# Altium integrated library Molex FFC - FPC Connectors (SMT).IntLib: 638 symbols (part 6 of 20)
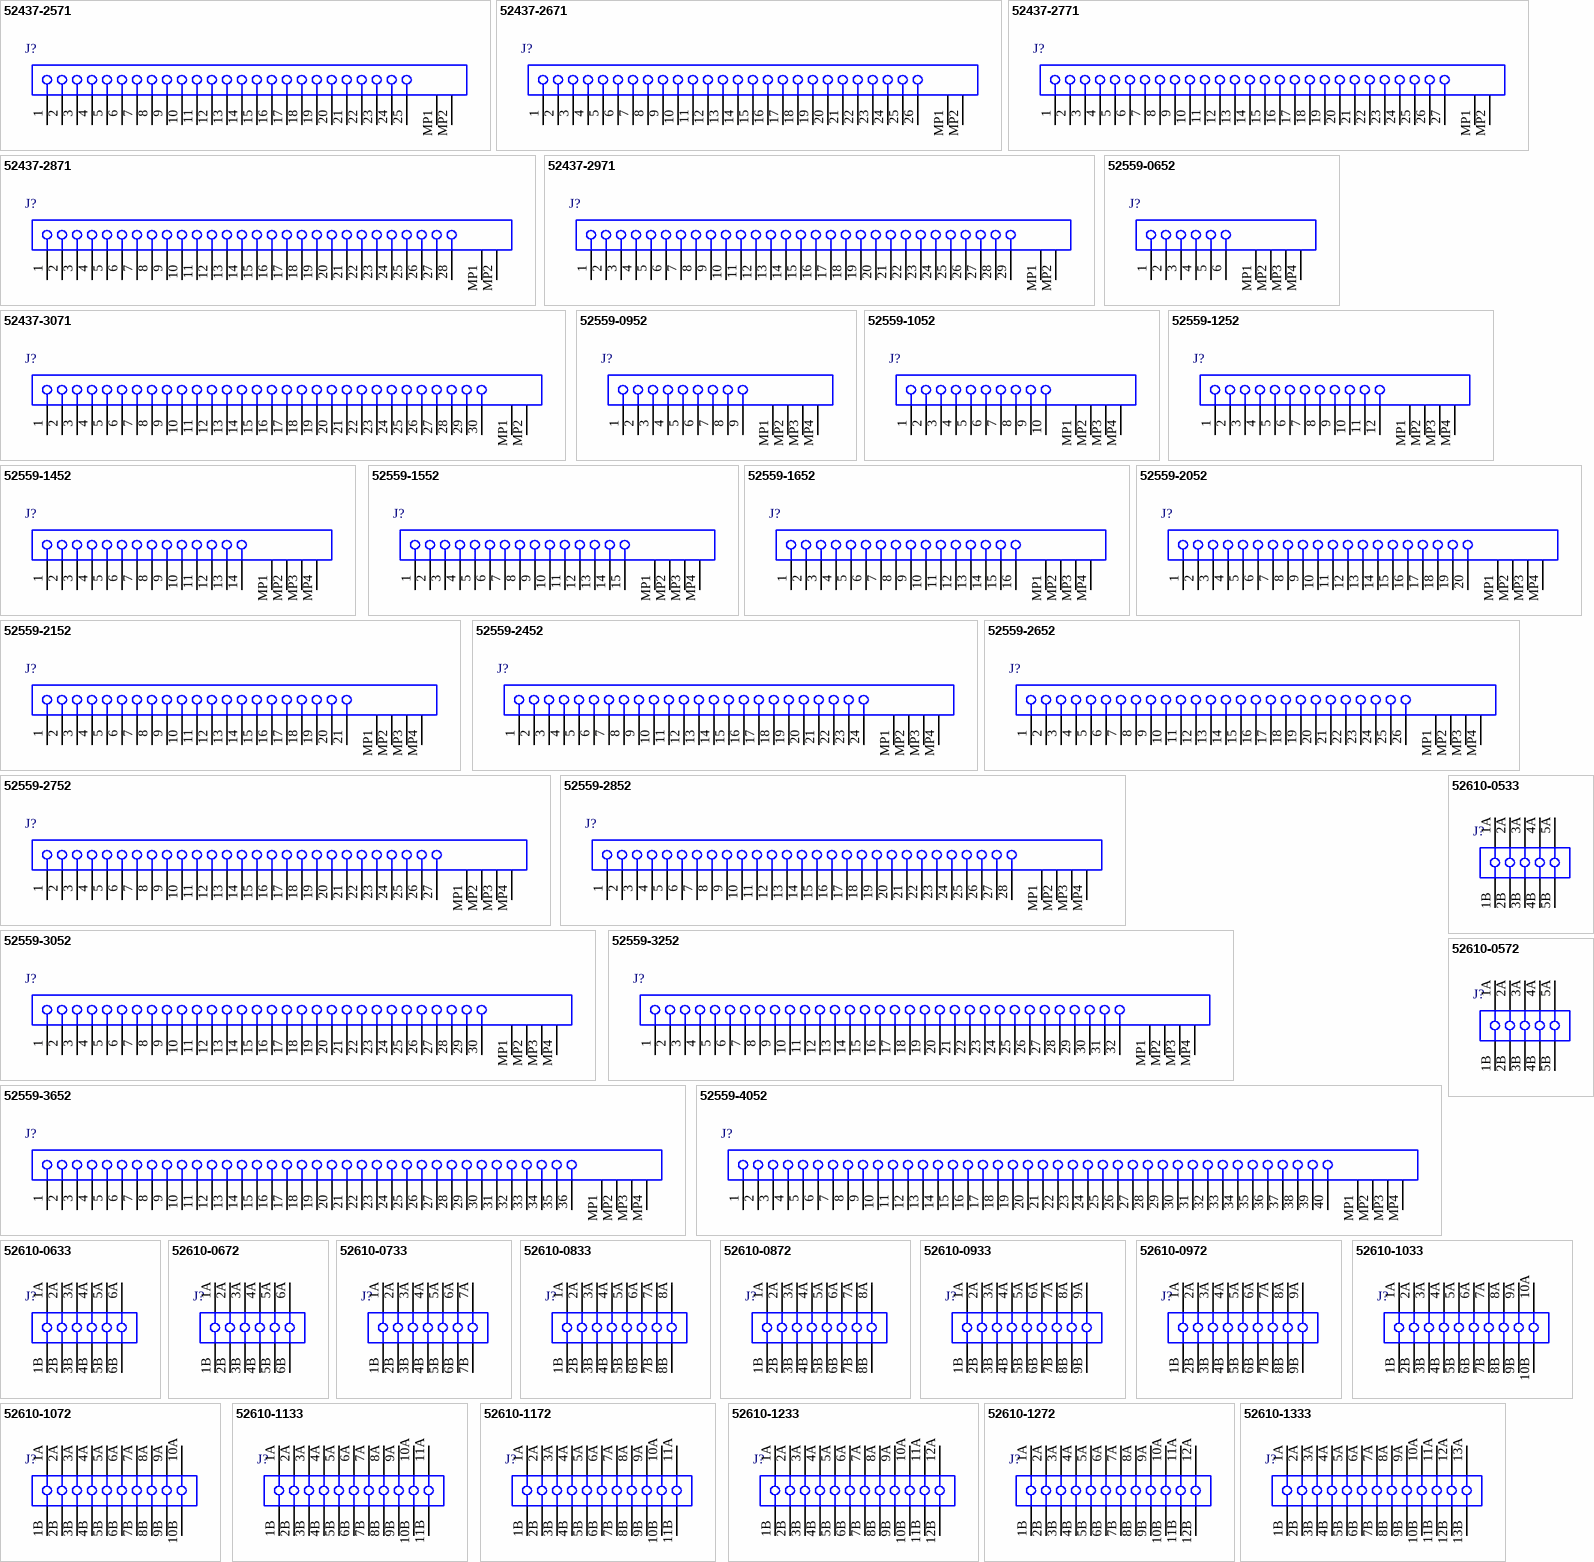
[diagram p26: symbols 52437-2571 to 52610-1333]

## 52610-0572
designator J?
1.0 mm Pitch Easy-On(TM) Type FPC Connector, 5.75 mm Mated Height, Vertical, ZIF, SMT, 5 Circuits, -40 to 85 degC, ELV and RoHS Compliant, Tape and Reel; Manufacturer: Molex; PartNumber: 52610-0572; Circuits (Loaded): 5; Current (Max per Contact): 1A; Durability (mating cycles max): 30; Mated Height: 5.75mm; Material - Metal: Phosphor Bronze; Material - Plating Mating: Gold; Material - Plating Termination: Tin; PCB Locator: No; PCB Retention: None; Pitch - Mating Interface: 1.00mm; Voltage (Max): 125V AC (RMS)/DC; PackageVersion: Rev. G, 02/2012; PackageReference: 52610-0572; PackageDescription: 5-Lead FPC Connector, Pitch 1.0 mm; Contact Position: N/A; Entry Angle: Vertical; Number of Rows: 1; Orientation: Vertical; Packing: Tape and Reel; Polarized to PCB: No; RoHS: TRUE; Stackable: No; Mounting Technology: Surface Mount; ComponentLink1Description: Manufacturer URL; ComponentLink1URL: http://www.molex.com/molex/index.jsp; ComponentLink2Description: Datasheet; ComponentLink2URL: http://www.molex.com/webdocs/datasheets/pdf/en-us/0526100572_FFC_FPC_CONNECTORS.pdf; ComponentLink3Description: Package Specification; ComponentLink3URL: http://www.molex.com/pdm_docs/sd/526100572_sd.pdf
footprint MOLX-52610-0572 (FPC Connector, 5-Leads, Vertical, Pitch 1.0 mm, Mated Height 5.75 mm, SMT)
pins: 1A, 1B, 2A, 2B, 3A, 3B, 4A, 4B, 5A, 5B

## 52610-0633
designator J?
1.0 mm Pitch Easy-On(TM) Type FPC Connector, 5.75 mm Mated Height, Vertical, ZIF, SMT, 6 Circuits, -40 to 85 degC, ELV and RoHS Compliant, Tape and Reel; Manufacturer: Molex; PartNumber: 52610-0633; Circuits (Loaded): 6; Current (Max per Contact): 1A; Durability (mating cycles max): 30; Mated Height: 5.75mm; Material - Metal: Phosphor Bronze; Material - Plating Mating: Silver, Tin-Bismuth; PCB Locator: No; PCB Retention: None; Pitch - Mating Interface: 1.00mm; Voltage (Max): 125V; PackageVersion: Rev. B, 08/2013; PackageReference: 52610-0633; PackageDescription: 6-Lead FPC Connector, Pitch 1.0 mm; Contact Position: N/A; Entry Angle: Vertical; Material - Plating Termination: Silver, Tin-Bismuth; Number of Rows: 1; Orientation: Vertical; Packing: Tape and Reel; Pitch - Termination Interface: 1.00mm; Polarized to PCB: No; RoHS: TRUE; Stackable: No; Mounting Technology: Surface Mount; ComponentLink1Description: Manufacturer URL; ComponentLink1URL: http://www.molex.com/molex/index.jsp; ComponentLink2Description: Datasheet; ComponentLink2URL: http://www.molex.com/webdocs/datasheets/pdf/en-us/0526100633_FFC_FPC_CONNECTORS.pdf; ComponentLink3Description: Package Specification; ComponentLink3URL: http://www.molex.com/pdm_docs/sd/526100633_sd.pdf
footprint MOLX-52610-0633 (FPC Connector, 6-Leads, Vertical, Pitch 1.0 mm, Mated Height 5.75 mm, SMT)
pins: 1A, 1B, 2A, 2B, 3A, 3B, 4A, 4B, 5A, 5B, 6A, 6B

## 52610-0672
designator J?
1.0 mm Pitch Easy-On(TM) Type FPC Connector, 5.75 mm Mated Height, Vertical, ZIF, SMT, 6 Circuits, -40 to 85 degC, ELV and RoHS Compliant, Tape and Reel; Manufacturer: Molex; PartNumber: 52610-0672; Circuits (Loaded): 6; Current (Max per Contact): 1A; Durability (mating cycles max): 30; Mated Height: 5.75mm; Material - Metal: Phosphor Bronze; Material - Plating Mating: Gold; Material - Plating Termination: Tin; PCB Locator: No; PCB Retention: None; Pitch - Mating Interface: 1.00mm; Voltage (Max): 125V AC (RMS)/DC; PackageVersion: Rev. G, 02/2012; PackageReference: 52610-0672; PackageDescription: 6-Lead FPC Connector, Pitch 1.0 mm; Contact Position: N/A; Entry Angle: Vertical; Number of Rows: 1; Orientation: Vertical; Packing: Tape and Reel; Polarized to PCB: No; RoHS: TRUE; Stackable: No; Mounting Technology: Surface Mount; ComponentLink1Description: Manufacturer URL; ComponentLink1URL: http://www.molex.com/molex/index.jsp; ComponentLink2Description: Datasheet; ComponentLink2URL: http://www.molex.com/webdocs/datasheets/pdf/en-us/0526100672_FFC_FPC_CONNECTORS.pdf; ComponentLink3Description: Package Specification; ComponentLink3URL: http://www.molex.com/pdm_docs/sd/526100672_sd.pdf
footprint MOLX-52610-0672 (FPC Connector, 6-Leads, Vertical, Pitch 1.0 mm, Mated Height 5.75 mm, SMT)
pins: 1A, 1B, 2A, 2B, 3A, 3B, 4A, 4B, 5A, 5B, 6A, 6B

## 52610-0733
designator J?
1.0 mm Pitch Easy-On(TM) Type FPC Connector, 5.75 mm Mated Height, Vertical, ZIF, SMT, 7 Circuits, -40 to 85 degC, ELV and RoHS Compliant, Tape and Reel; Manufacturer: Molex; PartNumber: 52610-0733; Circuits (Loaded): 7; Current (Max per Contact): 1A; Durability (mating cycles max): 30; Mated Height: 5.75mm; Material - Metal: Phosphor Bronze; Material - Plating Mating: Silver, Tin-Bismuth; PCB Locator: No; PCB Retention: None; Pitch - Mating Interface: 1.00mm; Voltage (Max): 125V; PackageVersion: Rev. B, 08/2013; PackageReference: 52610-0733; PackageDescription: 7-Lead FPC Connector, Pitch 1.0 mm; Contact Position: N/A; Entry Angle: Vertical; Material - Plating Termination: Silver, Tin-Bismuth; Number of Rows: 1; Orientation: Vertical; Packing: Tape and Reel; Pitch - Termination Interface: 1.00mm; Polarized to PCB: No; RoHS: TRUE; Stackable: No; Mounting Technology: Surface Mount; ComponentLink1Description: Manufacturer URL; ComponentLink1URL: http://www.molex.com/molex/index.jsp; ComponentLink2Description: Datasheet; ComponentLink2URL: http://www.molex.com/webdocs/datasheets/pdf/en-us/0526100733_FFC_FPC_CONNECTORS.pdf; ComponentLink3Description: Package Specification; ComponentLink3URL: http://www.molex.com/pdm_docs/sd/526100733_sd.pdf
footprint MOLX-52610-0733 (FPC Connector, 7-Leads, Vertical, Pitch 1.0 mm, Mated Height 5.75 mm, SMT)
pins: 1A, 1B, 2A, 2B, 3A, 3B, 4A, 4B, 5A, 5B, 6A, 6B, 7A, 7B

## 52610-0833
designator J?
1.0 mm Pitch Easy-On(TM) Type FPC Connector, 5.75 mm Mated Height, Vertical, ZIF, SMT, 8 Circuits, -40 to 85 degC, ELV and RoHS Compliant, Tape and Reel; Manufacturer: Molex; PartNumber: 52610-0833; Circuits (Loaded): 8; Current (Max per Contact): 1A; Durability (mating cycles max): 30; Mated Height: 5.75mm; Material - Metal: Phosphor Bronze; Material - Plating Mating: Silver, Tin-Bismuth; PCB Locator: No; PCB Retention: None; Pitch - Mating Interface: 1.00mm; Voltage (Max): 125V; PackageVersion: Rev. B, 08/2013; PackageReference: 52610-0833; PackageDescription: 8-Lead FPC Connector, Pitch 1.0 mm; Contact Position: N/A; Entry Angle: Vertical; Material - Plating Termination: Silver, Tin-Bismuth; Number of Rows: 1; Orientation: Vertical; Packing: Tape and Reel; Pitch - Termination Interface: 1.00mm; Polarized to PCB: No; RoHS: TRUE; Stackable: No; Mounting Technology: Surface Mount; ComponentLink1Description: Manufacturer URL; ComponentLink1URL: http://www.molex.com/molex/index.jsp; ComponentLink2Description: Datasheet; ComponentLink2URL: http://www.molex.com/webdocs/datasheets/pdf/en-us/0526100833_FFC_FPC_CONNECTORS.pdf; ComponentLink3Description: Package Specification; ComponentLink3URL: http://www.molex.com/pdm_docs/sd/526100833_sd.pdf
footprint MOLX-52610-0833 (FPC Connector, 8-Leads, Vertical, Pitch 1.0 mm, Mated Height 5.75 mm, SMT)
pins: 1A, 1B, 2A, 2B, 3A, 3B, 4A, 4B, 5A, 5B, 6A, 6B, 7A, 7B, 8A, 8B

## 52610-0872
designator J?
1.0 mm Pitch Easy-On(TM) Type FPC Connector, 5.75 mm Mated Height, Vertical, ZIF, SMT, 8 Circuits, -40 to 85 degC, ELV and RoHS Compliant, Tape and Reel; Manufacturer: Molex; PartNumber: 52610-0872; Circuits (Loaded): 8; Current (Max per Contact): 1A; Durability (mating cycles max): 30; Mated Height: 5.75mm; Material - Metal: Phosphor Bronze; Material - Plating Mating: Gold; Material - Plating Termination: Tin; PCB Locator: No; PCB Retention: None; Pitch - Mating Interface: 1.00mm; Voltage (Max): 125V AC (RMS)/DC; PackageVersion: Rev. G, 02/2012; PackageReference: 52610-0872; PackageDescription: 8-Lead FPC Connector, Pitch 1.0 mm; Contact Position: N/A; Entry Angle: Vertical; Number of Rows: 1; Orientation: Vertical; Packing: Tape and Reel; Polarized to PCB: No; RoHS: TRUE; Stackable: No; Mounting Technology: Surface Mount; ComponentLink1Description: Manufacturer URL; ComponentLink1URL: http://www.molex.com/molex/index.jsp; ComponentLink2Description: Datasheet; ComponentLink2URL: http://www.molex.com/webdocs/datasheets/pdf/en-us/0526100872_FFC_FPC_CONNECTORS.pdf; ComponentLink3Description: Package Specification; ComponentLink3URL: http://www.molex.com/pdm_docs/sd/526100872_sd.pdf
footprint MOLX-52610-0872 (FPC Connector, 8-Leads, Vertical, Pitch 1.0 mm, Mated Height 5.75 mm, SMT)
pins: 1A, 1B, 2A, 2B, 3A, 3B, 4A, 4B, 5A, 5B, 6A, 6B, 7A, 7B, 8A, 8B

## 52610-0933
designator J?
1.0 mm Pitch Easy-On(TM) Type FPC Connector, 5.75 mm Mated Height, Vertical, ZIF, SMT, 9 Circuits, -40 to 85 degC, ELV and RoHS Compliant, Tape and Reel; Manufacturer: Molex; PartNumber: 52610-0933; Circuits (Loaded): 9; Current (Max per Contact): 1A; Durability (mating cycles max): 30; Mated Height: 5.75mm; Material - Metal: Phosphor Bronze; Material - Plating Mating: Silver, Tin-Bismuth; PCB Locator: No; PCB Retention: None; Pitch - Mating Interface: 1.00mm; Voltage (Max): 125V; PackageVersion: Rev. B, 08/2013; PackageReference: 52610-0933; PackageDescription: 9-Lead FPC Connector, Pitch 1.0 mm; Contact Position: N/A; Entry Angle: Vertical; Material - Plating Termination: Silver, Tin-Bismuth; Number of Rows: 1; Orientation: Vertical; Packing: Tape and Reel; Pitch - Termination Interface: 1.00mm; Polarized to PCB: No; RoHS: TRUE; Stackable: No; Mounting Technology: Surface Mount; ComponentLink1Description: Manufacturer URL; ComponentLink1URL: http://www.molex.com/molex/index.jsp; ComponentLink2Description: Datasheet; ComponentLink2URL: http://www.molex.com/webdocs/datasheets/pdf/en-us/0526100933_FFC_FPC_CONNECTORS.pdf; ComponentLink3Description: Package Specification; ComponentLink3URL: http://www.molex.com/pdm_docs/sd/526100933_sd.pdf
footprint MOLX-52610-0933 (FPC Connector, 9-Leads, Vertical, Pitch 1.0 mm, Mated Height 5.75 mm, SMT)
pins: 1A, 1B, 2A, 2B, 3A, 3B, 4A, 4B, 5A, 5B, 6A, 6B, 7A, 7B, 8A, 8B, 9A, 9B

## 52610-0972
designator J?
1.0 mm Pitch Easy-On(TM) Type FPC Connector, 5.75 mm Mated Height, Vertical, ZIF, SMT, 9 Circuits, -40 to 85 degC, ELV and RoHS Compliant, Tape and Reel; Manufacturer: Molex; PartNumber: 52610-0972; Circuits (Loaded): 9; Current (Max per Contact): 1A; Durability (mating cycles max): 30; Mated Height: 5.75mm; Material - Metal: Phosphor Bronze; Material - Plating Mating: Gold; Material - Plating Termination: Tin; PCB Locator: No; PCB Retention: None; Pitch - Mating Interface: 1.00mm; Voltage (Max): 125V AC (RMS)/DC; PackageVersion: Rev. G, 02/2012; PackageReference: 52610-0972; PackageDescription: 9-Lead FPC Connector, Pitch 1.0 mm; Contact Position: N/A; Entry Angle: Vertical; Number of Rows: 1; Orientation: Vertical; Packing: Tape and Reel; Polarized to PCB: No; RoHS: TRUE; Stackable: No; Mounting Technology: Surface Mount; ComponentLink1Description: Manufacturer URL; ComponentLink1URL: http://www.molex.com/molex/index.jsp; ComponentLink2Description: Datasheet; ComponentLink2URL: http://www.molex.com/webdocs/datasheets/pdf/en-us/0526100972_FFC_FPC_CONNECTORS.pdf; ComponentLink3Description: Package Specification; ComponentLink3URL: http://www.molex.com/pdm_docs/sd/526100972_sd.pdf
footprint MOLX-52610-0972 (FPC Connector, 9-Leads, Vertical, Pitch 1.0 mm, Mated Height 5.75 mm, SMT)
pins: 1A, 1B, 2A, 2B, 3A, 3B, 4A, 4B, 5A, 5B, 6A, 6B, 7A, 7B, 8A, 8B, 9A, 9B

## 52610-1033
designator J?
1.0 mm Pitch Easy-On(TM) Type FPC Connector, 5.75 mm Mated Height, Vertical, ZIF, SMT, 10 Circuits, -40 to 85 degC, ELV and RoHS Compliant, Tape and Reel; Manufacturer: Molex; PartNumber: 52610-1033; Circuits (Loaded): 10; Current (Max per Contact): 1A; Durability (mating cycles max): 30; Mated Height: 5.75mm; Material - Metal: Phosphor Bronze; Material - Plating Mating: Silver, Tin-Bismuth; PCB Locator: No; PCB Retention: None; Pitch - Mating Interface: 1.00mm; Voltage (Max): 125V; PackageVersion: Rev. B, 08/2013; PackageReference: 52610-1033; PackageDescription: 10-Lead FPC Connector, Pitch 1.0 mm; Contact Position: N/A; Entry Angle: Vertical; Material - Plating Termination: Silver, Tin-Bismuth; Number of Rows: 1; Orientation: Vertical; Packing: Tape and Reel; Pitch - Termination Interface: 1.00mm; Polarized to PCB: No; RoHS: TRUE; Stackable: No; Mounting Technology: Surface Mount; ComponentLink1Description: Manufacturer URL; ComponentLink1URL: http://www.molex.com/molex/index.jsp; ComponentLink2Description: Datasheet; ComponentLink2URL: http://www.molex.com/webdocs/datasheets/pdf/en-us/0526101033_FFC_FPC_CONNECTORS.pdf; ComponentLink3Description: Package Specification; ComponentLink3URL: http://www.molex.com/pdm_docs/sd/526101033_sd.pdf
footprint MOLX-52610-1033 (FPC Connector, 10-Leads, Vertical, Pitch 1.0 mm, Mated Height 5.75 mm, SMT)
pins: 1A, 1B, 2A, 2B, 3A, 3B, 4A, 4B, 5A, 5B, 6A, 6B, 7A, 7B, 8A, 8B, 9A, 9B, 10A, 10B

## 52610-1072
designator J?
1.0 mm Pitch Easy-On(TM) Type FPC Connector, 5.75 mm Mated Height, Vertical, ZIF, SMT, 10 Circuits, -40 to 85 degC, ELV and RoHS Compliant, Tape and Reel; Manufacturer: Molex; PartNumber: 52610-1072; Circuits (Loaded): 10; Current (Max per Contact): 1A; Durability (mating cycles max): 30; Mated Height: 5.75mm; Material - Metal: Phosphor Bronze; Material - Plating Mating: Gold; PCB Locator: No; PCB Retention: None; Pitch - Mating Interface: 1.00mm; Voltage (Max): 125V AC (RMS)/DC; PackageVersion: Rev. G, 02/2012; PackageReference: 52610-1072; PackageDescription: 10-Lead FPC Connector, Pitch 1.0 mm; Contact Position: N/A; Entry Angle: Vertical; Material - Plating Termination: Gold; Number of Rows: 1; Orientation: Vertical; Packing: Tape and Reel; Polarized to PCB: No; RoHS: TRUE; Stackable: No; Mounting Technology: Surface Mount; ComponentLink1Description: Manufacturer URL; ComponentLink1URL: http://www.molex.com/molex/index.jsp; ComponentLink2Description: Datasheet; ComponentLink2URL: http://www.molex.com/webdocs/datasheets/pdf/en-us/0526101072_FFC_FPC_CONNECTORS.pdf; ComponentLink3Description: Package Specification; ComponentLink3URL: http://www.molex.com/pdm_docs/sd/526101072_sd.pdf
footprint MOLX-52610-1072 (FPC Connector, 10-Leads, Vertical, Pitch 1.0 mm, Mated Height 5.75 mm, SMT)
pins: 1A, 1B, 2A, 2B, 3A, 3B, 4A, 4B, 5A, 5B, 6A, 6B, 7A, 7B, 8A, 8B, 9A, 9B, 10A, 10B

## 52610-1133
designator J?
1.0 mm Pitch Easy-On(TM) Type FPC Connector, 5.75 mm Mated Height, Vertical, ZIF, SMT, 11 Circuits, -40 to 85 degC, ELV and RoHS Compliant, Tape and Reel; Manufacturer: Molex; PartNumber: 52610-1133; Circuits (Loaded): 11; Current (Max per Contact): 1A; Durability (mating cycles max): 30; Mated Height: 5.75mm; Material - Metal: Phosphor Bronze; Material - Plating Mating: Silver, Tin-Bismuth; PCB Locator: No; PCB Retention: None; Pitch - Mating Interface: 1.00mm; Voltage (Max): 125V; PackageVersion: Rev. B, 08/2013; PackageReference: 52610-1133; PackageDescription: 11-Lead FPC Connector, Pitch 1.0 mm; Contact Position: N/A; Entry Angle: Vertical; Material - Plating Termination: Silver, Tin-Bismuth; Number of Rows: 1; Orientation: Vertical; Packing: Tape and Reel; Pitch - Termination Interface: 1.00mm; Polarized to PCB: No; RoHS: TRUE; Stackable: No; Mounting Technology: Surface Mount; ComponentLink1Description: Manufacturer URL; ComponentLink1URL: http://www.molex.com/molex/index.jsp; ComponentLink2Description: Datasheet; ComponentLink2URL: http://www.molex.com/webdocs/datasheets/pdf/en-us/0526101133_FFC_FPC_CONNECTORS.pdf; ComponentLink3Description: Package Specification; ComponentLink3URL: http://www.molex.com/pdm_docs/sd/526101133_sd.pdf
footprint MOLX-52610-1133 (FPC Connector, 11-Leads, Vertical, Pitch 1.0 mm, Mated Height 5.75 mm, SMT)
pins: 1A, 1B, 2A, 2B, 3A, 3B, 4A, 4B, 5A, 5B, 6A, 6B, 7A, 7B, 8A, 8B, 9A, 9B, 10A, 10B, 11A, 11B

## 52610-1172
designator J?
1.0 mm Pitch Easy-On(TM) Type FPC Connector, 5.75 mm Mated Height, Vertical, ZIF, SMT, 11 Circuits, -40 to 85 degC, ELV and RoHS Compliant, Tape and Reel; Manufacturer: Molex; PartNumber: 52610-1172; Circuits (Loaded): 11; Current (Max per Contact): 1A; Durability (mating cycles max): 30; Mated Height: 5.75mm; Material - Metal: Phosphor Bronze; Material - Plating Mating: Gold; Material - Plating Termination: Tin; PCB Locator: No; PCB Retention: None; Pitch - Mating Interface: 1.00mm; Voltage (Max): 125V AC (RMS)/DC; PackageVersion: Rev. G, 02/2012; PackageReference: 52610-1172; PackageDescription: 11-Lead FPC Connector, Pitch 1.0 mm; Contact Position: N/A; Entry Angle: Vertical; Number of Rows: 1; Orientation: Vertical; Packing: Tape and Reel; Polarized to PCB: No; RoHS: TRUE; Stackable: No; Mounting Technology: Surface Mount; ComponentLink1Description: Manufacturer URL; ComponentLink1URL: http://www.molex.com/molex/index.jsp; ComponentLink2Description: Datasheet; ComponentLink2URL: http://www.molex.com/webdocs/datasheets/pdf/en-us/0526101172_FFC_FPC_CONNECTORS.pdf; ComponentLink3Description: Package Specification; ComponentLink3URL: http://www.molex.com/pdm_docs/sd/526101172_sd.pdf
footprint MOLX-52610-1172 (FPC Connector, 11-Leads, Vertical, Pitch 1.0 mm, Mated Height 5.75 mm, SMT)
pins: 1A, 1B, 2A, 2B, 3A, 3B, 4A, 4B, 5A, 5B, 6A, 6B, 7A, 7B, 8A, 8B, 9A, 9B, 10A, 10B, 11A, 11B

## 52610-1233
designator J?
1.0 mm Pitch Easy-On(TM) Type FPC Connector, 5.75 mm Mated Height, Vertical, ZIF, SMT, 12 Circuits, -40 to 85 degC, ELV and RoHS Compliant, Tape and Reel; Manufacturer: Molex; PartNumber: 52610-1233; Circuits (Loaded): 12; Current (Max per Contact): 1A; Durability (mating cycles max): 30; Mated Height: 5.75mm; Material - Metal: Phosphor Bronze; Material - Plating Mating: Silver, Tin-Bismuth; PCB Locator: No; PCB Retention: None; Pitch - Mating Interface: 1.00mm; Voltage (Max): 125V; PackageVersion: Rev. B, 08/2013; PackageReference: 52610-1233; PackageDescription: 12-Lead FPC Connector, Pitch 1.0 mm; Contact Position: N/A; Entry Angle: Vertical; Material - Plating Termination: Silver, Tin-Bismuth; Number of Rows: 1; Orientation: Vertical; Packing: Tape and Reel; Pitch - Termination Interface: 1.00mm; Polarized to PCB: No; RoHS: TRUE; Stackable: No; Mounting Technology: Surface Mount; ComponentLink1Description: Manufacturer URL; ComponentLink1URL: http://www.molex.com/molex/index.jsp; ComponentLink2Description: Datasheet; ComponentLink2URL: http://www.molex.com/webdocs/datasheets/pdf/en-us/0526101233_FFC_FPC_CONNECTORS.pdf; ComponentLink3Description: Package Specification; ComponentLink3URL: http://www.molex.com/pdm_docs/sd/526101233_sd.pdf
footprint MOLX-52610-1233 (FPC Connector, 12-Leads, Vertical, Pitch 1.0 mm, Mated Height 5.75 mm, SMT)
pins: 1A, 1B, 2A, 2B, 3A, 3B, 4A, 4B, 5A, 5B, 6A, 6B, 7A, 7B, 8A, 8B, 9A, 9B, 10A, 10B, 11A, 11B, 12A, 12B

## 52610-1272
designator J?
1.0 mm Pitch Easy-On(TM) Type FPC Connector, 5.75 mm Mated Height, Vertical, ZIF, SMT, 12 Circuits, -40 to 85 degC, ELV and RoHS Compliant, Tape and Reel; Manufacturer: Molex; PartNumber: 52610-1272; Circuits (Loaded): 12; Current (Max per Contact): 1A; Durability (mating cycles max): 30; Mated Height: 5.75mm; Material - Metal: Phosphor Bronze; Material - Plating Mating: Gold; Material - Plating Termination: Tin; PCB Locator: No; PCB Retention: None; Pitch - Mating Interface: 1.00mm; Voltage (Max): 125V AC (RMS)/DC; PackageVersion: Rev. G, 02/2012; PackageReference: 52610-1272; PackageDescription: 12-Lead FPC Connector, Pitch 1.0 mm; Contact Position: N/A; Entry Angle: Vertical; Number of Rows: 1; Orientation: Vertical; Packing: Tape and Reel; Polarized to PCB: No; RoHS: TRUE; Stackable: No; Mounting Technology: Surface Mount; ComponentLink1Description: Manufacturer URL; ComponentLink1URL: http://www.molex.com/molex/index.jsp; ComponentLink2Description: Datasheet; ComponentLink2URL: http://www.molex.com/webdocs/datasheets/pdf/en-us/0526101272_FFC_FPC_CONNECTORS.pdf; ComponentLink3Description: Package Specification; ComponentLink3URL: http://www.molex.com/pdm_docs/sd/526101272_sd.pdf
footprint MOLX-52610-1272 (FPC Connector, 12-Leads, Vertical, Pitch 1.0 mm, Mated Height 5.75 mm, SMT)
pins: 1A, 1B, 2A, 2B, 3A, 3B, 4A, 4B, 5A, 5B, 6A, 6B, 7A, 7B, 8A, 8B, 9A, 9B, 10A, 10B, 11A, 11B, 12A, 12B

## 52610-1333
designator J?
1.0 mm Pitch Easy-On(TM) Type FPC Connector, 5.75 mm Mated Height, Vertical, ZIF, SMT, 13 Circuits, -40 to 85 degC, ELV and RoHS Compliant, Tape and Reel; Manufacturer: Molex; PartNumber: 52610-1333; Circuits (Loaded): 13; Current (Max per Contact): 1A; Durability (mating cycles max): 30; Mated Height: 5.75mm; Material - Metal: Phosphor Bronze; Material - Plating Mating: Silver, Tin-Bismuth; PCB Locator: No; PCB Retention: None; Pitch - Mating Interface: 1.00mm; Voltage (Max): 125V; PackageVersion: Rev. B, 08/2013; PackageReference: 52610-1333; PackageDescription: 13-Lead FPC Connector, Pitch 1.0 mm; Contact Position: N/A; Entry Angle: Vertical; Material - Plating Termination: Silver, Tin-Bismuth; Number of Rows: 1; Orientation: Vertical; Packing: Tape and Reel; Pitch - Termination Interface: 1.00mm; Polarized to PCB: No; RoHS: TRUE; Stackable: No; Mounting Technology: Surface Mount; ComponentLink1Description: Manufacturer URL; ComponentLink1URL: http://www.molex.com/molex/index.jsp; ComponentLink2Description: Datasheet; ComponentLink2URL: http://www.molex.com/webdocs/datasheets/pdf/en-us/0526101333_FFC_FPC_CONNECTORS.pdf; ComponentLink3Description: Package Specification; ComponentLink3URL: http://www.molex.com/pdm_docs/sd/526101333_sd.pdf
footprint MOLX-52610-1333 (FPC Connector, 13-Leads, Vertical, Pitch 1.0 mm, Mated Height 5.75 mm, SMT)
pins: 1A, 1B, 2A, 2B, 3A, 3B, 4A, 4B, 5A, 5B, 6A, 6B, 7A, 7B, 8A, 8B, 9A, 9B, 10A, 10B, 11A, 11B, 12A, 12B, 13A, 13B

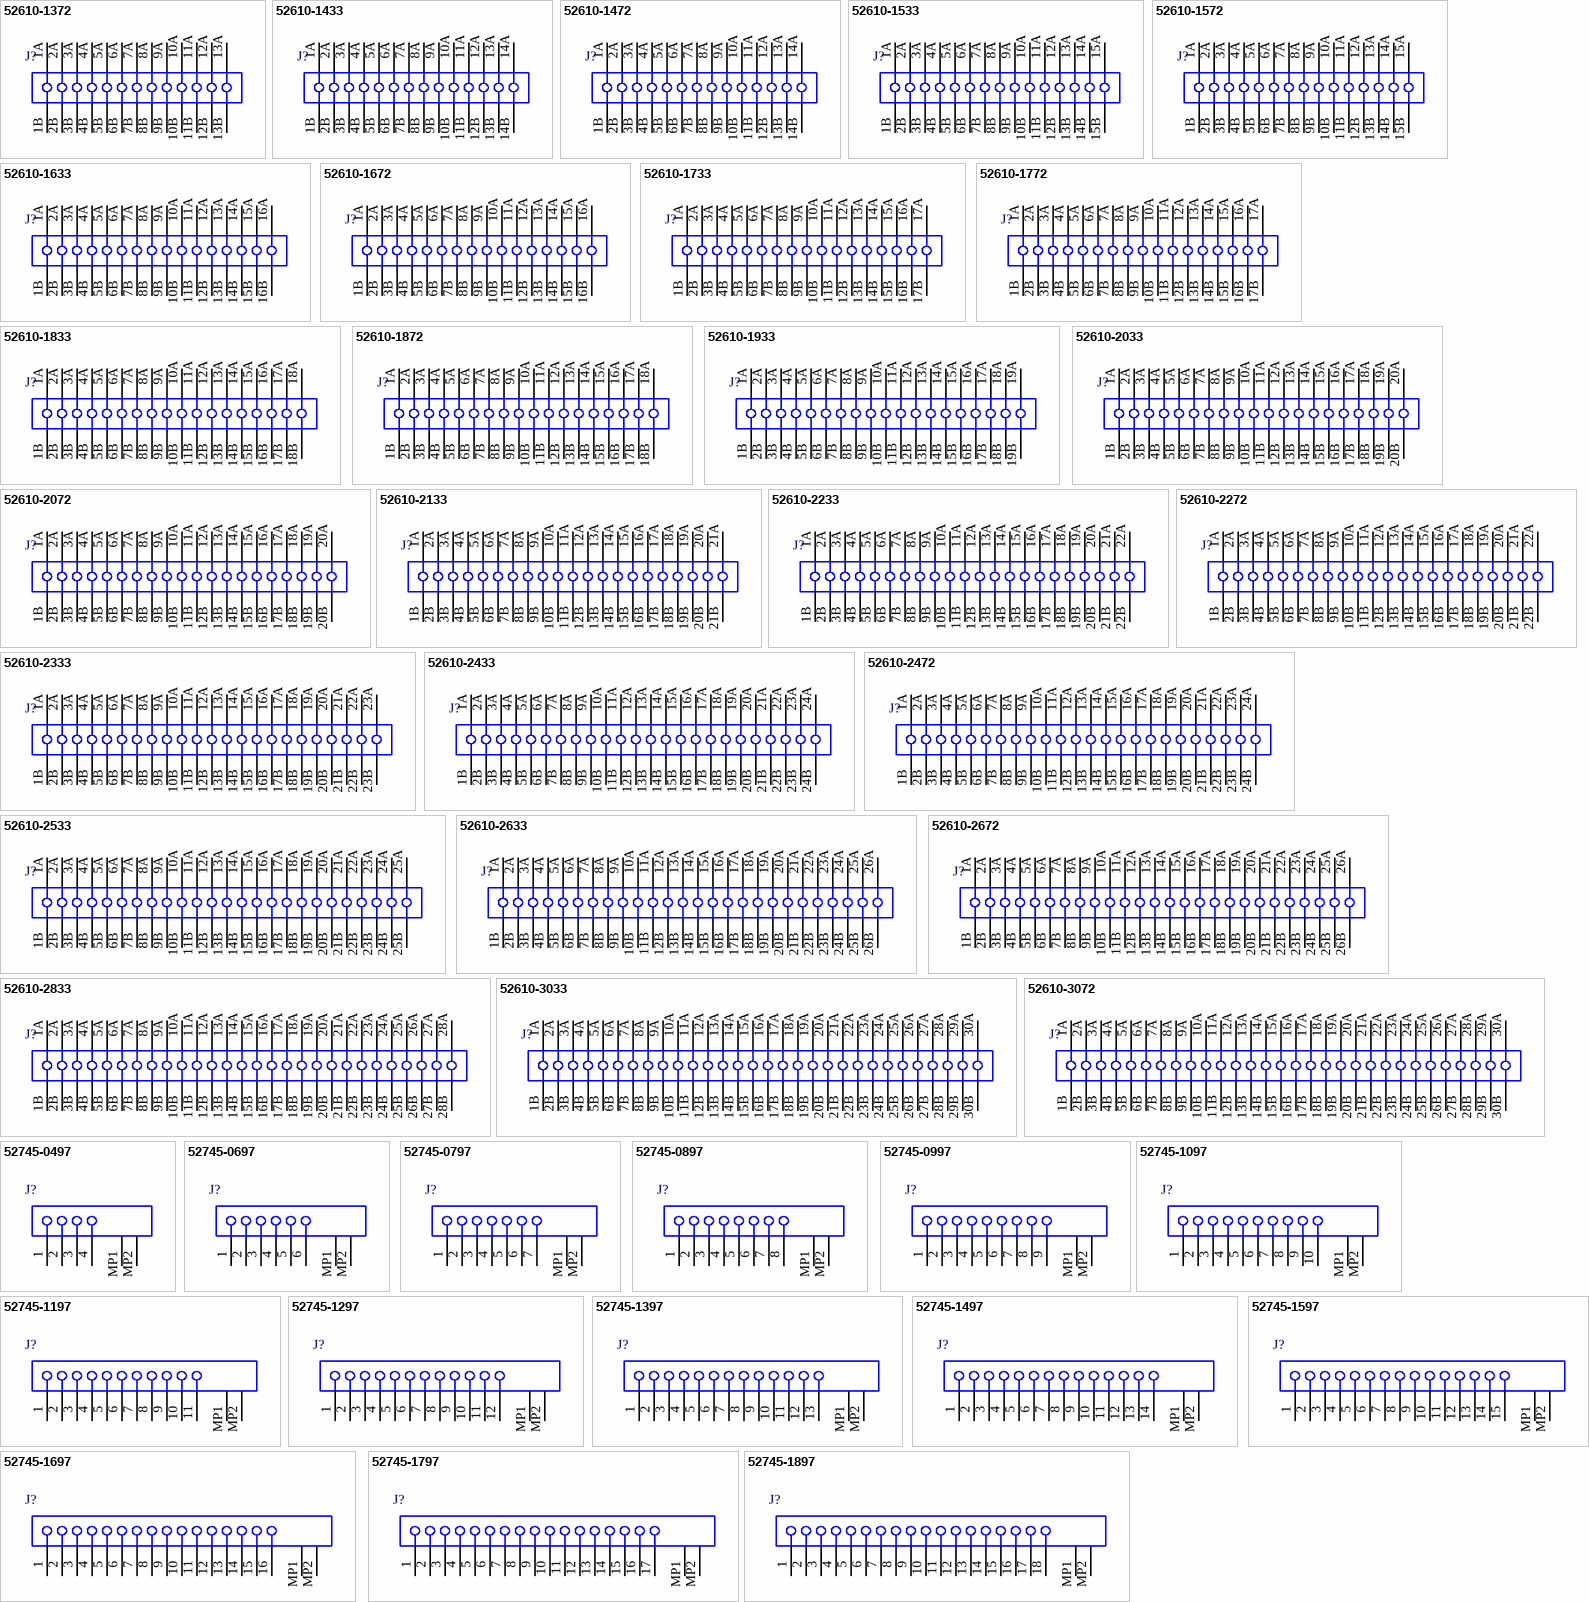
[diagram p5: symbols 52610-1372 to 52745-1897]

## 52610-1372
designator J?
1.0 mm Pitch Easy-On(TM) Type FPC Connector, 5.75 mm Mated Height, Vertical, ZIF, SMT, 13 Circuits, -40 to 85 degC, ELV and RoHS Compliant, Tape and Reel; Manufacturer: Molex; PartNumber: 52610-1372; Circuits (Loaded): 13; Current (Max per Contact): 1A; Durability (mating cycles max): 30; Mated Height: 5.75mm; Material - Metal: Phosphor Bronze; Material - Plating Mating: Gold; Material - Plating Termination: Tin; PCB Locator: No; PCB Retention: None; Pitch - Mating Interface: 1.00mm; Voltage (Max): 125V AC (RMS)/DC; PackageVersion: Rev. G, 02/2012; PackageReference: 52610-1372; PackageDescription: 13-Lead FPC Connector, Pitch 1.0 mm; Contact Position: N/A; Entry Angle: Vertical; Number of Rows: 1; Orientation: Vertical; Packing: Tape and Reel; Polarized to PCB: No; RoHS: TRUE; Stackable: No; Mounting Technology: Surface Mount; ComponentLink1Description: Manufacturer URL; ComponentLink1URL: http://www.molex.com/molex/index.jsp; ComponentLink2Description: Datasheet; ComponentLink2URL: http://www.molex.com/webdocs/datasheets/pdf/en-us/0526101372_FFC_FPC_CONNECTORS.pdf; ComponentLink3Description: Package Specification; ComponentLink3URL: http://www.molex.com/pdm_docs/sd/526101372_sd.pdf
footprint MOLX-52610-1372 (FPC Connector, 13-Leads, Vertical, Pitch 1.0 mm, Mated Height 5.75 mm, SMT)
pins: 1A, 1B, 2A, 2B, 3A, 3B, 4A, 4B, 5A, 5B, 6A, 6B, 7A, 7B, 8A, 8B, 9A, 9B, 10A, 10B, 11A, 11B, 12A, 12B, 13A, 13B

## 52610-1433
designator J?
1.0 mm Pitch Easy-On(TM) Type FPC Connector, 5.75 mm Mated Height, Vertical, ZIF, SMT, 14 Circuits, -40 to 85 degC, ELV and RoHS Compliant, Tape and Reel; Manufacturer: Molex; PartNumber: 52610-1433; Circuits (Loaded): 14; Current (Max per Contact): 1A; Durability (mating cycles max): 30; Mated Height: 5.75mm; Material - Metal: Phosphor Bronze; Material - Plating Mating: Silver, Tin-Bismuth; PCB Locator: No; PCB Retention: None; Pitch - Mating Interface: 1.00mm; Voltage (Max): 125V; PackageVersion: Rev. B, 08/2013; PackageReference: 52610-1433; PackageDescription: 14-Lead FPC Connector, Pitch 1.0 mm; Contact Position: N/A; Entry Angle: Vertical; Material - Plating Termination: Silver, Tin-Bismuth; Number of Rows: 1; Orientation: Vertical; Packing: Tape and Reel; Pitch - Termination Interface: 1.00mm; Polarized to PCB: No; RoHS: TRUE; Stackable: No; Mounting Technology: Surface Mount; ComponentLink1Description: Manufacturer URL; ComponentLink1URL: http://www.molex.com/molex/index.jsp; ComponentLink2Description: Datasheet; ComponentLink2URL: http://www.molex.com/webdocs/datasheets/pdf/en-us/0526101433_FFC_FPC_CONNECTORS.pdf; ComponentLink3Description: Package Specification; ComponentLink3URL: http://www.molex.com/pdm_docs/sd/526101433_sd.pdf
footprint MOLX-52610-1433 (FPC Connector, 14-Leads, Vertical, Pitch 1.0 mm, Mated Height 5.75 mm, SMT)
pins: 1A, 1B, 2A, 2B, 3A, 3B, 4A, 4B, 5A, 5B, 6A, 6B, 7A, 7B, 8A, 8B, 9A, 9B, 10A, 10B, 11A, 11B, 12A, 12B, 13A, 13B, 14A, 14B

## 52610-1472
designator J?
1.0 mm Pitch Easy-On(TM) Type FPC Connector, 5.75 mm Mated Height, Vertical, ZIF, SMT, 14 Circuits, -40 to 85 degC, ELV and RoHS Compliant, Tape and Reel; Manufacturer: Molex; PartNumber: 52610-1472; Circuits (Loaded): 14; Current (Max per Contact): 1A; Durability (mating cycles max): 30; Mated Height: 5.75mm; Material - Metal: Phosphor Bronze; Material - Plating Mating: Gold; Material - Plating Termination: Tin; PCB Locator: No; PCB Retention: None; Pitch - Mating Interface: 1.00mm; Voltage (Max): 125V AC (RMS)/DC; PackageVersion: Rev. G, 02/2012; PackageReference: 52610-1472; PackageDescription: 14-Lead FPC Connector, Pitch 1.0 mm; Contact Position: N/A; Entry Angle: Vertical; Number of Rows: 1; Orientation: Vertical; Packing: Tape and Reel; Polarized to PCB: No; RoHS: TRUE; Stackable: No; Mounting Technology: Surface Mount; ComponentLink1Description: Manufacturer URL; ComponentLink1URL: http://www.molex.com/molex/index.jsp; ComponentLink2Description: Datasheet; ComponentLink2URL: http://www.molex.com/webdocs/datasheets/pdf/en-us/0526101472_FFC_FPC_CONNECTORS.pdf; ComponentLink3Description: Package Specification; ComponentLink3URL: http://www.molex.com/pdm_docs/sd/526101472_sd.pdf
footprint MOLX-52610-1472 (FPC Connector, 14-Leads, Vertical, Pitch 1.0 mm, Mated Height 5.75 mm, SMT)
pins: 1A, 1B, 2A, 2B, 3A, 3B, 4A, 4B, 5A, 5B, 6A, 6B, 7A, 7B, 8A, 8B, 9A, 9B, 10A, 10B, 11A, 11B, 12A, 12B, 13A, 13B, 14A, 14B

## 52610-1533
designator J?
1.0 mm Pitch Easy-On(TM) Type FPC Connector, 5.75 mm Mated Height, Vertical, ZIF, SMT, 15 Circuits, -40 to 85 degC, ELV and RoHS Compliant, Tape and Reel; Manufacturer: Molex; PartNumber: 52610-1533; Circuits (Loaded): 15; Current (Max per Contact): 1A; Durability (mating cycles max): 30; Mated Height: 5.75mm; Material - Metal: Phosphor Bronze; Material - Plating Mating: Silver, Tin-Bismuth; PCB Locator: No; PCB Retention: None; Pitch - Mating Interface: 1.00mm; Voltage (Max): 125V; PackageVersion: Rev. B, 08/2013; PackageReference: 52610-1533; PackageDescription: 15-Lead FPC Connector, Pitch 1.0 mm; Contact Position: N/A; Entry Angle: Vertical; Material - Plating Termination: Silver, Tin-Bismuth; Number of Rows: 1; Orientation: Vertical; Packing: Tape and Reel; Pitch - Termination Interface: 1.00mm; Polarized to PCB: No; RoHS: TRUE; Stackable: No; Mounting Technology: Surface Mount; ComponentLink1Description: Manufacturer URL; ComponentLink1URL: http://www.molex.com/molex/index.jsp; ComponentLink2Description: Datasheet; ComponentLink2URL: http://www.molex.com/webdocs/datasheets/pdf/en-us/0526101533_FFC_FPC_CONNECTORS.pdf; ComponentLink3Description: Package Specification; ComponentLink3URL: http://www.molex.com/pdm_docs/sd/526101533_sd.pdf
footprint MOLX-52610-1533 (FPC Connector, 15-Leads, Vertical, Pitch 1.0 mm, Mated Height 5.75 mm, SMT)
pins: 1A, 1B, 2A, 2B, 3A, 3B, 4A, 4B, 5A, 5B, 6A, 6B, 7A, 7B, 8A, 8B, 9A, 9B, 10A, 10B, 11A, 11B, 12A, 12B, 13A, 13B, 14A, 14B, 15A, 15B

## 52610-1572
designator J?
1.0 mm Pitch Easy-On(TM) Type FPC Connector, 5.75 mm Mated Height, Vertical, ZIF, SMT, 15 Circuits, -40 to 85 degC, ELV and RoHS Compliant, Tape and Reel; Manufacturer: Molex; PartNumber: 52610-1572; Circuits (Loaded): 15; Current (Max per Contact): 1A; Durability (mating cycles max): 30; Mated Height: 5.75mm; Material - Metal: Phosphor Bronze; Material - Plating Mating: Gold; Material - Plating Termination: Tin; PCB Locator: No; PCB Retention: None; Pitch - Mating Interface: 1.00mm; Voltage (Max): 125V AC (RMS)/DC; PackageVersion: Rev. G, 02/2012; PackageReference: 52610-1572; PackageDescription: 15-Lead FPC Connector, Pitch 1.0 mm; Contact Position: N/A; Entry Angle: Vertical; Number of Rows: 1; Orientation: Vertical; Packing: Tape and Reel; Polarized to PCB: No; RoHS: TRUE; Stackable: No; Mounting Technology: Surface Mount; ComponentLink1Description: Manufacturer URL; ComponentLink1URL: http://www.molex.com/molex/index.jsp; ComponentLink2Description: Datasheet; ComponentLink2URL: http://www.molex.com/webdocs/datasheets/pdf/en-us/0526101572_FFC_FPC_CONNECTORS.pdf; ComponentLink3Description: Package Specification; ComponentLink3URL: http://www.molex.com/pdm_docs/sd/526101572_sd.pdf
footprint MOLX-52610-1572 (FPC Connector, 15-Leads, Vertical, Pitch 1.0 mm, Mated Height 5.75 mm, SMT)
pins: 1A, 1B, 2A, 2B, 3A, 3B, 4A, 4B, 5A, 5B, 6A, 6B, 7A, 7B, 8A, 8B, 9A, 9B, 10A, 10B, 11A, 11B, 12A, 12B, 13A, 13B, 14A, 14B, 15A, 15B

## 52610-1633
designator J?
1.0 mm Pitch Easy-On(TM) Type FPC Connector, 5.75 mm Mated Height, Vertical, ZIF, SMT, 16 Circuits, -40 to 85 degC, ELV and RoHS Compliant, Tape and Reel; Manufacturer: Molex; PartNumber: 52610-1633; Circuits (Loaded): 16; Current (Max per Contact): 1A; Durability (mating cycles max): 30; Mated Height: 5.75mm; Material - Metal: Phosphor Bronze; Material - Plating Mating: Silver, Tin-Bismuth; PCB Locator: No; PCB Retention: None; Pitch - Mating Interface: 1.00mm; Voltage (Max): 125V; PackageVersion: Rev. B, 08/2013; PackageReference: 52610-1633; PackageDescription: 16-Lead FPC Connector, Pitch 1.0 mm; Contact Position: N/A; Entry Angle: Vertical; Material - Plating Termination: Silver, Tin-Bismuth; Number of Rows: 1; Orientation: Vertical; Packing: Tape and Reel; Pitch - Termination Interface: 1.00mm; Polarized to PCB: No; RoHS: TRUE; Stackable: No; Mounting Technology: Surface Mount; ComponentLink1Description: Manufacturer URL; ComponentLink1URL: http://www.molex.com/molex/index.jsp; ComponentLink2Description: Datasheet; ComponentLink2URL: http://www.molex.com/webdocs/datasheets/pdf/en-us/0526101633_FFC_FPC_CONNECTORS.pdf; ComponentLink3Description: Package Specification; ComponentLink3URL: http://www.molex.com/pdm_docs/sd/526101633_sd.pdf
footprint MOLX-52610-1633 (FPC Connector, 16-Leads, Vertical, Pitch 1.0 mm, Mated Height 5.75 mm, SMT)
pins: 1A, 1B, 2A, 2B, 3A, 3B, 4A, 4B, 5A, 5B, 6A, 6B, 7A, 7B, 8A, 8B, 9A, 9B, 10A, 10B, 11A, 11B, 12A, 12B, 13A, 13B, 14A, 14B, 15A, 15B, 16A, 16B

## 52610-1672
designator J?
1.0 mm Pitch Easy-On(TM) Type FPC Connector, 5.75 mm Mated Height, Vertical, ZIF, SMT, 16 Circuits, -40 to 85 degC, ELV and RoHS Compliant, Tape and Reel; Manufacturer: Molex; PartNumber: 52610-1672; Circuits (Loaded): 16; Current (Max per Contact): 1A; Durability (mating cycles max): 30; Mated Height: 5.75mm; Material - Metal: Phosphor Bronze; Material - Plating Mating: Gold; Material - Plating Termination: Tin; PCB Locator: No; PCB Retention: None; Pitch - Mating Interface: 1.00mm; Voltage (Max): 125V AC (RMS)/DC; PackageVersion: Rev. G, 02/2012; PackageReference: 52610-1672; PackageDescription: 16-Lead FPC Connector, Pitch 1.0 mm; Contact Position: N/A; Entry Angle: Vertical; Number of Rows: 1; Orientation: Vertical; Packing: Tape and Reel; Polarized to PCB: No; RoHS: TRUE; Stackable: No; Mounting Technology: Surface Mount; ComponentLink1Description: Manufacturer URL; ComponentLink1URL: http://www.molex.com/molex/index.jsp; ComponentLink2Description: Datasheet; ComponentLink2URL: http://www.molex.com/webdocs/datasheets/pdf/en-us/0526101672_FFC_FPC_CONNECTORS.pdf; ComponentLink3Description: Package Specification; ComponentLink3URL: http://www.molex.com/pdm_docs/sd/526101672_sd.pdf
footprint MOLX-52610-1672 (FPC Connector, 16-Leads, Vertical, Pitch 1.0 mm, Mated Height 5.75 mm, SMT)
pins: 1A, 1B, 2A, 2B, 3A, 3B, 4A, 4B, 5A, 5B, 6A, 6B, 7A, 7B, 8A, 8B, 9A, 9B, 10A, 10B, 11A, 11B, 12A, 12B, 13A, 13B, 14A, 14B, 15A, 15B, 16A, 16B

## 52610-1733
designator J?
1.0 mm Pitch Easy-On(TM) Type FPC Connector, 5.75 mm Mated Height, Vertical, ZIF, SMT, 17 Circuits, -40 to 85 degC, ELV and RoHS Compliant, Tape and Reel; Manufacturer: Molex; PartNumber: 52610-1733; Circuits (Loaded): 17; Current (Max per Contact): 1A; Durability (mating cycles max): 30; Mated Height: 5.75mm; Material - Metal: Phosphor Bronze; Material - Plating Mating: Silver, Tin-Bismuth; PCB Locator: No; PCB Retention: None; Pitch - Mating Interface: 1.00mm; Voltage (Max): 125V; PackageVersion: Rev. B, 08/2013; PackageReference: 52610-1733; PackageDescription: 17-Lead FPC Connector, Pitch 1.0 mm; Contact Position: N/A; Entry Angle: Vertical; Material - Plating Termination: Silver, Tin-Bismuth; Number of Rows: 1; Orientation: Vertical; Packing: Tape and Reel; Pitch - Termination Interface: 1.00mm; Polarized to PCB: No; RoHS: TRUE; Stackable: No; Mounting Technology: Surface Mount; ComponentLink1Description: Manufacturer URL; ComponentLink1URL: http://www.molex.com/molex/index.jsp; ComponentLink2Description: Datasheet; ComponentLink2URL: http://www.molex.com/webdocs/datasheets/pdf/en-us/0526101733_FFC_FPC_CONNECTORS.pdf; ComponentLink3Description: Package Specification; ComponentLink3URL: http://www.molex.com/pdm_docs/sd/526101733_sd.pdf
footprint MOLX-52610-1733 (FPC Connector, 17-Leads, Vertical, Pitch 1.0 mm, Mated Height 5.75 mm, SMT)
pins: 1A, 1B, 2A, 2B, 3A, 3B, 4A, 4B, 5A, 5B, 6A, 6B, 7A, 7B, 8A, 8B, 9A, 9B, 10A, 10B, 11A, 11B, 12A, 12B, 13A, 13B, 14A, 14B, 15A, 15B, 16A, 16B, 17A, 17B

## 52610-1772
designator J?
1.0 mm Pitch Easy-On(TM) Type FPC Connector, 5.75 mm Mated Height, Vertical, ZIF, SMT, 17 Circuits, -40 to 85 degC, ELV and RoHS Compliant, Tape and Reel; Manufacturer: Molex; PartNumber: 52610-1772; Circuits (Loaded): 17; Current (Max per Contact): 1A; Durability (mating cycles max): 30; Mated Height: 5.75mm; Material - Metal: Phosphor Bronze; Material - Plating Mating: Gold; Material - Plating Termination: Tin; PCB Locator: No; PCB Retention: None; Pitch - Mating Interface: 1.00mm; Voltage (Max): 125V AC (RMS)/DC; PackageVersion: Rev. G, 02/2012; PackageReference: 52610-1772; PackageDescription: 17-Lead FPC Connector, Pitch 1.0 mm; Contact Position: N/A; Entry Angle: Vertical; Number of Rows: 1; Orientation: Vertical; Packing: Tape and Reel; Polarized to PCB: No; RoHS: TRUE; Stackable: No; Mounting Technology: Surface Mount; ComponentLink1Description: Manufacturer URL; ComponentLink1URL: http://www.molex.com/molex/index.jsp; ComponentLink2Description: Datasheet; ComponentLink2URL: http://www.molex.com/webdocs/datasheets/pdf/en-us/0526101772_FFC_FPC_CONNECTORS.pdf; ComponentLink3Description: Package Specification; ComponentLink3URL: http://www.molex.com/pdm_docs/sd/526101772_sd.pdf
footprint MOLX-52610-1772 (FPC Connector, 17-Leads, Vertical, Pitch 1.0 mm, Mated Height 5.75 mm, SMT)
pins: 1A, 1B, 2A, 2B, 3A, 3B, 4A, 4B, 5A, 5B, 6A, 6B, 7A, 7B, 8A, 8B, 9A, 9B, 10A, 10B, 11A, 11B, 12A, 12B, 13A, 13B, 14A, 14B, 15A, 15B, 16A, 16B, 17A, 17B

## 52610-1833
designator J?
1.0 mm Pitch Easy-On(TM) Type FPC Connector, 5.75 mm Mated Height, Vertical, ZIF, SMT, 18 Circuits, -40 to 85 degC, ELV and RoHS Compliant, Tape and Reel; Manufacturer: Molex; PartNumber: 52610-1833; Circuits (Loaded): 18; Current (Max per Contact): 1A; Durability (mating cycles max): 30; Mated Height: 5.75mm; Material - Metal: Phosphor Bronze; Material - Plating Mating: Silver, Tin-Bismuth; PCB Locator: No; PCB Retention: None; Pitch - Mating Interface: 1.00mm; Voltage (Max): 125V; PackageVersion: Rev. B, 08/2013; PackageReference: 52610-1833; PackageDescription: 18-Lead FPC Connector, Pitch 1.0 mm; Contact Position: N/A; Entry Angle: Vertical; Material - Plating Termination: Silver, Tin-Bismuth; Number of Rows: 1; Orientation: Vertical; Packing: Tape and Reel; Pitch - Termination Interface: 1.00mm; Polarized to PCB: No; RoHS: TRUE; Stackable: No; Mounting Technology: Surface Mount; ComponentLink1Description: Manufacturer URL; ComponentLink1URL: http://www.molex.com/molex/index.jsp; ComponentLink2Description: Datasheet; ComponentLink2URL: http://www.molex.com/webdocs/datasheets/pdf/en-us/0526101833_FFC_FPC_CONNECTORS.pdf; ComponentLink3Description: Package Specification; ComponentLink3URL: http://www.molex.com/pdm_docs/sd/526101833_sd.pdf
footprint MOLX-52610-1833 (FPC Connector, 18-Leads, Vertical, Pitch 1.0 mm, Mated Height 5.75 mm, SMT)
pins: 1A, 1B, 2A, 2B, 3A, 3B, 4A, 4B, 5A, 5B, 6A, 6B, 7A, 7B, 8A, 8B, 9A, 9B, 10A, 10B, 11A, 11B, 12A, 12B, 13A, 13B, 14A, 14B, 15A, 15B, 16A, 16B, 17A, 17B, 18A, 18B

## 52610-1872
designator J?
1.0 mm Pitch Easy-On(TM) Type FPC Connector, 5.75 mm Mated Height, Vertical, ZIF, SMT, 18 Circuits, -40 to 85 degC, ELV and RoHS Compliant, Tape and Reel; Manufacturer: Molex; PartNumber: 52610-1872; Circuits (Loaded): 18; Current (Max per Contact): 1A; Durability (mating cycles max): 30; Mated Height: 5.75mm; Material - Metal: Phosphor Bronze; Material - Plating Mating: Gold; Material - Plating Termination: Tin; PCB Locator: No; PCB Retention: None; Pitch - Mating Interface: 1.00mm; Voltage (Max): 125V AC (RMS)/DC; PackageVersion: Rev. G, 02/2012; PackageReference: 52610-1872; PackageDescription: 18-Lead FPC Connector, Pitch 1.0 mm; Contact Position: N/A; Entry Angle: Vertical; Number of Rows: 1; Orientation: Vertical; Packing: Tape and Reel; Polarized to PCB: No; RoHS: TRUE; Stackable: No; Mounting Technology: Surface Mount; ComponentLink1Description: Manufacturer URL; ComponentLink1URL: http://www.molex.com/molex/index.jsp; ComponentLink2Description: Datasheet; ComponentLink2URL: http://www.molex.com/webdocs/datasheets/pdf/en-us/0526101872_FFC_FPC_CONNECTORS.pdf; ComponentLink3Description: Package Specification; ComponentLink3URL: http://www.molex.com/pdm_docs/sd/526101872_sd.pdf
footprint MOLX-52610-1872 (FPC Connector, 18-Leads, Vertical, Pitch 1.0 mm, Mated Height 5.75 mm, SMT)
pins: 1A, 1B, 2A, 2B, 3A, 3B, 4A, 4B, 5A, 5B, 6A, 6B, 7A, 7B, 8A, 8B, 9A, 9B, 10A, 10B, 11A, 11B, 12A, 12B, 13A, 13B, 14A, 14B, 15A, 15B, 16A, 16B, 17A, 17B, 18A, 18B

## 52610-1933
designator J?
1.0 mm Pitch Easy-On(TM) Type FPC Connector, 5.75 mm Mated Height, Vertical, ZIF, SMT, 19 Circuits, -40 to 85 degC, ELV and RoHS Compliant, Tape and Reel; Manufacturer: Molex; PartNumber: 52610-1933; Circuits (Loaded): 19; Current (Max per Contact): 1A; Durability (mating cycles max): 30; Mated Height: 5.75mm; Material - Metal: Phosphor Bronze; Material - Plating Mating: Silver, Tin-Bismuth; PCB Locator: No; PCB Retention: None; Pitch - Mating Interface: 1.00mm; Voltage (Max): 125V; PackageVersion: Rev. B, 08/2013; PackageReference: 52610-1933; PackageDescription: 19-Lead FPC Connector, Pitch 1.0 mm; Contact Position: N/A; Entry Angle: Vertical; Material - Plating Termination: Silver, Tin-Bismuth; Number of Rows: 1; Orientation: Vertical; Packing: Tape and Reel; Pitch - Termination Interface: 1.00mm; Polarized to PCB: No; RoHS: TRUE; Stackable: No; Mounting Technology: Surface Mount; ComponentLink1Description: Manufacturer URL; ComponentLink1URL: http://www.molex.com/molex/index.jsp; ComponentLink2Description: Datasheet; ComponentLink2URL: http://www.molex.com/webdocs/datasheets/pdf/en-us/0526101933_FFC_FPC_CONNECTORS.pdf; ComponentLink3Description: Package Specification; ComponentLink3URL: http://www.molex.com/pdm_docs/sd/526101933_sd.pdf
footprint MOLX-52610-1933 (FPC Connector, 19-Leads, Vertical, Pitch 1.0 mm, Mated Height 5.75 mm, SMT)
pins: 1A, 1B, 2A, 2B, 3A, 3B, 4A, 4B, 5A, 5B, 6A, 6B, 7A, 7B, 8A, 8B, 9A, 9B, 10A, 10B, 11A, 11B, 12A, 12B, 13A, 13B, 14A, 14B, 15A, 15B, 16A, 16B, 17A, 17B, 18A, 18B, 19A, 19B

## 52610-2033
designator J?
1.0 mm Pitch Easy-On(TM) Type FPC Connector, 5.75 mm Mated Height, Vertical, ZIF, SMT, 20 Circuits, -40 to 85 degC, ELV and RoHS Compliant, Tape and Reel; Manufacturer: Molex; PartNumber: 52610-2033; Circuits (Loaded): 20; Current (Max per Contact): 1A; Durability (mating cycles max): 30; Mated Height: 5.75mm; Material - Metal: Phosphor Bronze; Material - Plating Mating: Silver, Tin-Bismuth; PCB Locator: No; PCB Retention: None; Pitch - Mating Interface: 1.00mm; Voltage (Max): 125V; PackageVersion: Rev. B, 08/2013; PackageReference: 52610-2033; PackageDescription: 20-Lead FPC Connector, Pitch 1.0 mm; Contact Position: N/A; Entry Angle: Vertical; Material - Plating Termination: Silver, Tin-Bismuth; Number of Rows: 1; Orientation: Vertical; Packing: Tape and Reel; Pitch - Termination Interface: 1.00mm; Polarized to PCB: No; RoHS: TRUE; Stackable: No; Mounting Technology: Surface Mount; ComponentLink1Description: Manufacturer URL; ComponentLink1URL: http://www.molex.com/molex/index.jsp; ComponentLink2Description: Datasheet; ComponentLink2URL: http://www.molex.com/webdocs/datasheets/pdf/en-us/0526102033_FFC_FPC_CONNECTORS.pdf; ComponentLink3Description: Package Specification; ComponentLink3URL: http://www.molex.com/pdm_docs/sd/526102033_sd.pdf
footprint MOLX-52610-2033 (FPC Connector, 20-Leads, Vertical, Pitch 1.0 mm, Mated Height 5.75 mm, SMT)
pins: 1A, 1B, 2A, 2B, 3A, 3B, 4A, 4B, 5A, 5B, 6A, 6B, 7A, 7B, 8A, 8B, 9A, 9B, 10A, 10B, 11A, 11B, 12A, 12B, 13A, 13B, 14A, 14B, 15A, 15B, 16A, 16B, 17A, 17B, 18A, 18B, 19A, 19B, 20A, 20B

## 52610-2072
designator J?
1.0 mm Pitch Easy-On(TM) Type FPC Connector, 5.75 mm Mated Height, Vertical, ZIF, SMT, 20 Circuits, -40 to 85 degC, ELV and RoHS Compliant, Tape and Reel; Manufacturer: Molex; PartNumber: 52610-2072; Circuits (Loaded): 20; Current (Max per Contact): 1A; Durability (mating cycles max): 30; Mated Height: 5.75mm; Material - Metal: Phosphor Bronze; Material - Plating Mating: Gold; Material - Plating Termination: Tin; PCB Locator: No; PCB Retention: None; Pitch - Mating Interface: 1.00mm; Voltage (Max): 125V AC (RMS)/DC; PackageVersion: Rev. G, 02/2012; PackageReference: 52610-2072; PackageDescription: 20-Lead FPC Connector, Pitch 1.0 mm; Contact Position: N/A; Entry Angle: Vertical; Number of Rows: 1; Orientation: Vertical; Packing: Tape and Reel; Polarized to PCB: No; RoHS: TRUE; Stackable: No; Mounting Technology: Surface Mount; ComponentLink1Description: Manufacturer URL; ComponentLink1URL: http://www.molex.com/molex/index.jsp; ComponentLink2Description: Datasheet; ComponentLink2URL: http://www.molex.com/webdocs/datasheets/pdf/en-us/0526102072_FFC_FPC_CONNECTORS.pdf; ComponentLink3Description: Package Specification; ComponentLink3URL: http://www.molex.com/pdm_docs/sd/526102072_sd.pdf
footprint MOLX-52610-2072 (FPC Connector, 20-Leads, Vertical, Pitch 1.0 mm, Mated Height 5.75 mm, SMT)
pins: 1A, 1B, 2A, 2B, 3A, 3B, 4A, 4B, 5A, 5B, 6A, 6B, 7A, 7B, 8A, 8B, 9A, 9B, 10A, 10B, 11A, 11B, 12A, 12B, 13A, 13B, 14A, 14B, 15A, 15B, 16A, 16B, 17A, 17B, 18A, 18B, 19A, 19B, 20A, 20B

## 52610-2133
designator J?
1.0 mm Pitch Easy-On(TM) Type FPC Connector, 5.75 mm Mated Height, Vertical, ZIF, SMT, 21 Circuits, -40 to 85 degC, ELV and RoHS Compliant, Tape and Reel; Manufacturer: Molex; PartNumber: 52610-2133; Circuits (Loaded): 21; Current (Max per Contact): 1A; Durability (mating cycles max): 30; Mated Height: 5.75mm; Material - Metal: Phosphor Bronze; Material - Plating Mating: Silver, Tin-Bismuth; PCB Locator: No; PCB Retention: None; Pitch - Mating Interface: 1.00mm; Voltage (Max): 125V; PackageVersion: Rev. B, 08/2013; PackageReference: 52610-2133; PackageDescription: 21-Lead FPC Connector, Pitch 1.0 mm; Contact Position: N/A; Entry Angle: Vertical; Material - Plating Termination: Silver, Tin-Bismuth; Number of Rows: 1; Orientation: Vertical; Packing: Tape and Reel; Pitch - Termination Interface: 1.00mm; Polarized to PCB: No; RoHS: TRUE; Stackable: No; Mounting Technology: Surface Mount; ComponentLink1Description: Manufacturer URL; ComponentLink1URL: http://www.molex.com/molex/index.jsp; ComponentLink2Description: Datasheet; ComponentLink2URL: http://www.molex.com/webdocs/datasheets/pdf/en-us/0526102133_FFC_FPC_CONNECTORS.pdf; ComponentLink3Description: Package Specification; ComponentLink3URL: http://www.molex.com/pdm_docs/sd/526102133_sd.pdf
footprint MOLX-52610-2133 (FPC Connector, 21-Leads, Vertical, Pitch 1.0 mm, Mated Height 5.75 mm, SMT)
pins: 1A, 1B, 2A, 2B, 3A, 3B, 4A, 4B, 5A, 5B, 6A, 6B, 7A, 7B, 8A, 8B, 9A, 9B, 10A, 10B, 11A, 11B, 12A, 12B, 13A, 13B, 14A, 14B, 15A, 15B, 16A, 16B, 17A, 17B, 18A, 18B, 19A, 19B, 20A, 20B, 21A, 21B

## 52610-2233
designator J?
1.0 mm Pitch Easy-On(TM) Type FPC Connector, 5.75 mm Mated Height, Vertical, ZIF, SMT, 22 Circuits, -40 to 85 degC, ELV and RoHS Compliant, Tape and Reel; Manufacturer: Molex; PartNumber: 52610-2233; Circuits (Loaded): 22; Current (Max per Contact): 1A; Durability (mating cycles max): 30; Mated Height: 5.75mm; Material - Metal: Phosphor Bronze; Material - Plating Mating: Silver, Tin-Bismuth; PCB Locator: No; PCB Retention: None; Pitch - Mating Interface: 1.00mm; Voltage (Max): 125V; PackageVersion: Rev. B, 08/2013; PackageReference: 52610-2233; PackageDescription: 22-Lead FPC Connector, Pitch 1.0 mm; Contact Position: N/A; Entry Angle: Vertical; Material - Plating Termination: Silver, Tin-Bismuth; Number of Rows: 1; Orientation: Vertical; Packing: Tape and Reel; Pitch - Termination Interface: 1.00mm; Polarized to PCB: No; RoHS: TRUE; Stackable: No; Mounting Technology: Surface Mount; ComponentLink1Description: Manufacturer URL; ComponentLink1URL: http://www.molex.com/molex/index.jsp; ComponentLink2Description: Datasheet; ComponentLink2URL: http://www.molex.com/webdocs/datasheets/pdf/en-us/0526102233_FFC_FPC_CONNECTORS.pdf; ComponentLink3Description: Package Specification; ComponentLink3URL: http://www.molex.com/pdm_docs/sd/526102233_sd.pdf
footprint MOLX-52610-2233 (FPC Connector, 22-Leads, Vertical, Pitch 1.0 mm, Mated Height 5.75 mm, SMT)
pins: 1A, 1B, 2A, 2B, 3A, 3B, 4A, 4B, 5A, 5B, 6A, 6B, 7A, 7B, 8A, 8B, 9A, 9B, 10A, 10B, 11A, 11B, 12A, 12B, 13A, 13B, 14A, 14B, 15A, 15B, 16A, 16B, 17A, 17B, 18A, 18B, 19A, 19B, 20A, 20B, 21A, 21B, 22A, 22B

## 52610-2272
designator J?
1.0 mm Pitch Easy-On(TM) Type FPC Connector, 5.75 mm Mated Height, Vertical, ZIF, SMT, 22 Circuits, -40 to 85 degC, ELV and RoHS Compliant, Tape and Reel; Manufacturer: Molex; PartNumber: 52610-2272; Circuits (Loaded): 22; Current (Max per Contact): 1A; Durability (mating cycles max): 30; Mated Height: 5.75mm; Material - Metal: Phosphor Bronze; Material - Plating Mating: Gold; Material - Plating Termination: Tin; PCB Locator: No; PCB Retention: None; Pitch - Mating Interface: 1.00mm; Voltage (Max): 125V AC (RMS)/DC; PackageVersion: Rev. G, 02/2012; PackageReference: 52610-2272; PackageDescription: 22-Lead FPC Connector, Pitch 1.0 mm; Contact Position: N/A; Entry Angle: Vertical; Number of Rows: 1; Orientation: Vertical; Packing: Tape and Reel; Polarized to PCB: No; RoHS: TRUE; Stackable: No; Mounting Technology: Surface Mount; ComponentLink1Description: Manufacturer URL; ComponentLink1URL: http://www.molex.com/molex/index.jsp; ComponentLink2Description: Datasheet; ComponentLink2URL: http://www.molex.com/webdocs/datasheets/pdf/en-us/0526102272_FFC_FPC_CONNECTORS.pdf; ComponentLink3Description: Package Specification; ComponentLink3URL: http://www.molex.com/pdm_docs/sd/526102272_sd.pdf
footprint MOLX-52610-2272 (FPC Connector, 22-Leads, Vertical, Pitch 1.0 mm, Mated Height 5.75 mm, SMT)
pins: 1A, 1B, 2A, 2B, 3A, 3B, 4A, 4B, 5A, 5B, 6A, 6B, 7A, 7B, 8A, 8B, 9A, 9B, 10A, 10B, 11A, 11B, 12A, 12B, 13A, 13B, 14A, 14B, 15A, 15B, 16A, 16B, 17A, 17B, 18A, 18B, 19A, 19B, 20A, 20B, 21A, 21B, 22A, 22B

## 52610-2333
designator J?
1.0 mm Pitch Easy-On(TM) Type FPC Connector, 5.75 mm Mated Height, Vertical, ZIF, SMT, 23 Circuits, -40 to 85 degC, ELV and RoHS Compliant, Tape and Reel; Manufacturer: Molex; PartNumber: 52610-2333; Circuits (Loaded): 23; Current (Max per Contact): 1A; Durability (mating cycles max): 30; Mated Height: 5.75mm; Material - Metal: Phosphor Bronze; Material - Plating Mating: Silver, Tin-Bismuth; PCB Locator: No; PCB Retention: None; Pitch - Mating Interface: 1.00mm; Voltage (Max): 125V; PackageVersion: Rev. B, 08/2013; PackageReference: 52610-2333; PackageDescription: 23-Lead FPC Connector, Pitch 1.0 mm; Contact Position: N/A; Entry Angle: Vertical; Material - Plating Termination: Silver, Tin-Bismuth; Number of Rows: 1; Orientation: Vertical; Packing: Tape and Reel; Pitch - Termination Interface: 1.00mm; Polarized to PCB: No; RoHS: TRUE; Stackable: No; Mounting Technology: Surface Mount; ComponentLink1Description: Manufacturer URL; ComponentLink1URL: http://www.molex.com/molex/index.jsp; ComponentLink2Description: Datasheet; ComponentLink2URL: http://www.molex.com/webdocs/datasheets/pdf/en-us/0526102333_FFC_FPC_CONNECTORS.pdf; ComponentLink3Description: Package Specification; ComponentLink3URL: http://www.molex.com/pdm_docs/sd/526102333_sd.pdf
footprint MOLX-52610-2333 (FPC Connector, 23-Leads, Vertical, Pitch 1.0 mm, Mated Height 5.75 mm, SMT)
pins: 1A, 1B, 2A, 2B, 3A, 3B, 4A, 4B, 5A, 5B, 6A, 6B, 7A, 7B, 8A, 8B, 9A, 9B, 10A, 10B, 11A, 11B, 12A, 12B, 13A, 13B, 14A, 14B, 15A, 15B, 16A, 16B, 17A, 17B, 18A, 18B, 19A, 19B, 20A, 20B, 21A, 21B, 22A, 22B, 23A, 23B